# EAGLE library part ACNW-3190 (library charleses_parts_bin)
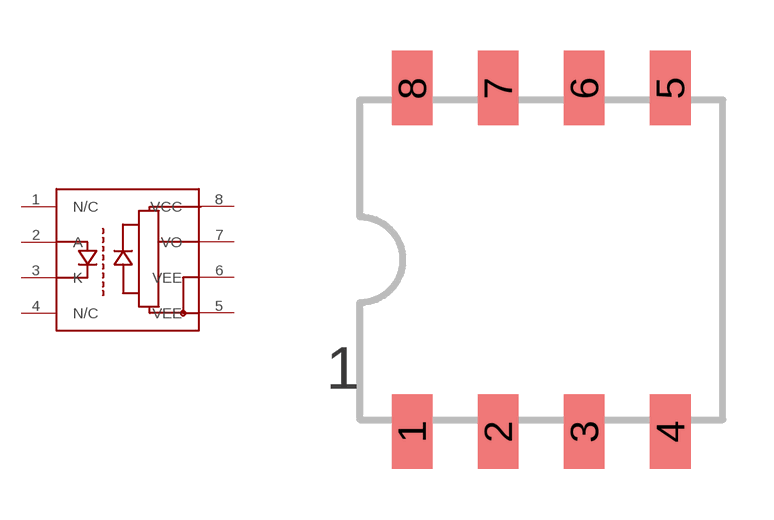
[diagram p11: symbol with the pads of DIP8-400; footprint DIP8-400]

Designator prefix -

## ACNW-3190  [DIP8-400]
1  N/C
2  A
3  K
4  N/C
5  VEE
6  VEE
7  VO
8  VCC

## Footprint DIP8-400 (pad centres in mm)
400 mil wide 8DIP smt for gull wing parts
smd 1.2 x 2.2: 1 -3.81,-5.07; 2 -1.27,-5.07; 3 1.27,-5.07; 4 3.81,-5.07; 5 3.81,5.07; 6 1.27,5.07; 7 -1.27,5.07; 8 -3.81,5.07